# EAGLE library part AT91SAM7X256 (library at91sam7x-xxxx)
Atmels AT91SAM7X 128/256/512 32-bit ARM in LQFP100 package based on olimex development board http://www.olimex.com/dev/images/ARM/ATMEL/SAM7-EX256-REV-Bsch.gif by Grzegorz Rajtar e-mail: mcgregor@blackmesaeast.com.pl
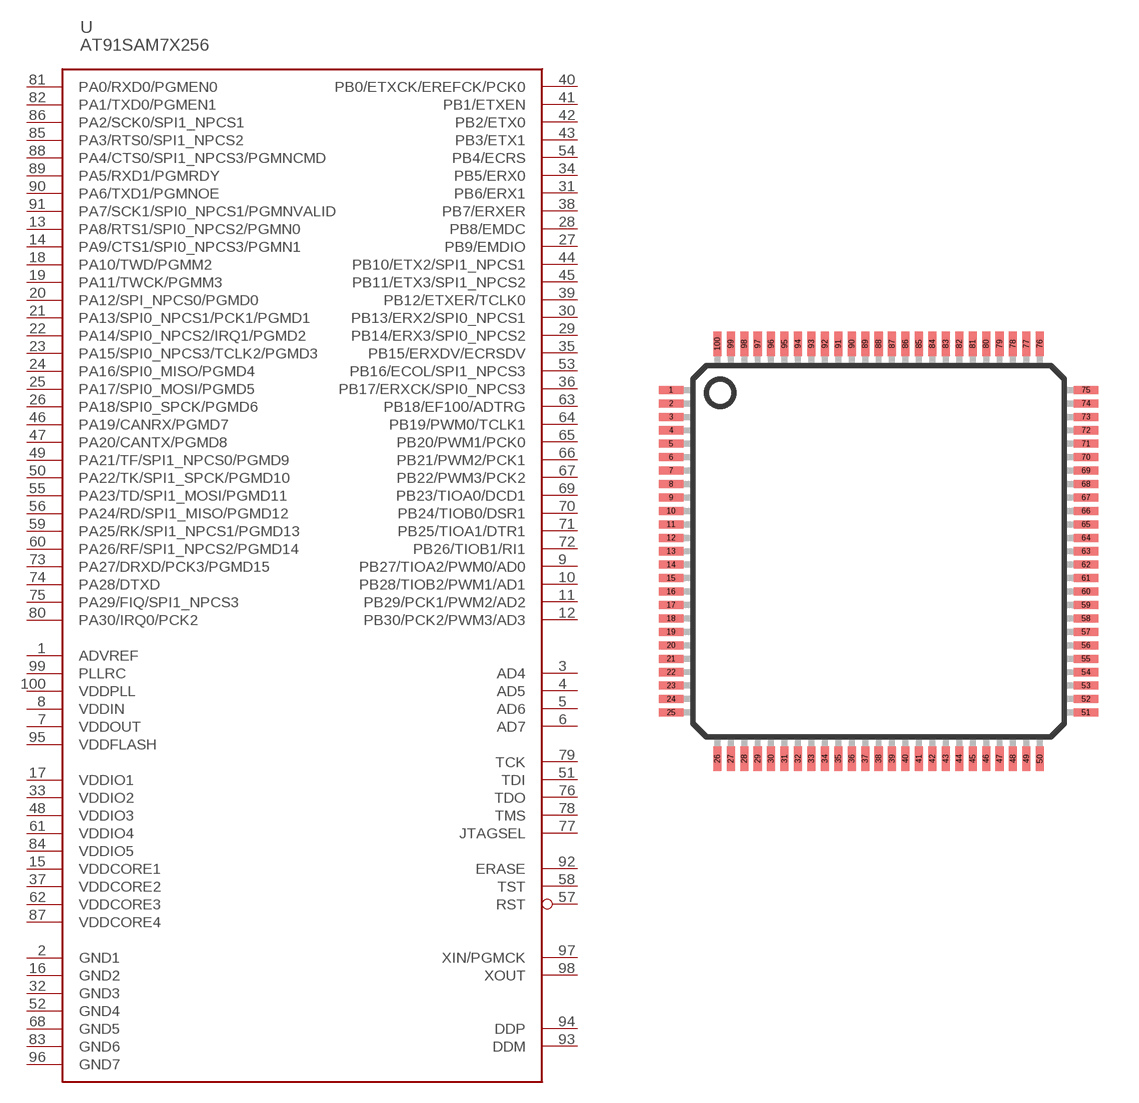
[diagram p0: symbol with the pads of LQFP100; footprint LQFP100]

Designator prefix -

## AT91SAM7X256  [LQFP100]
1  ADVREF
2  GND1
3  AD4
4  AD5
5  AD6
6  AD7
7  VDDOUT
8  VDDIN
9  PB27/TIOA2/PWM0/AD0
10  PB28/TIOB2/PWM1/AD1
11  PB29/PCK1/PWM2/AD2
12  PB30/PCK2/PWM3/AD3
13  PA8/RTS1/SPI0_NPCS2/PGMN0
14  PA9/CTS1/SPI0_NPCS3/PGMN1
15  VDDCORE1
16  GND2
17  VDDIO1
18  PA10/TWD/PGMM2
19  PA11/TWCK/PGMM3
20  PA12/SPI_NPCS0/PGMD0
21  PA13/SPI0_NPCS1/PCK1/PGMD1
22  PA14/SPI0_NPCS2/IRQ1/PGMD2
23  PA15/SPI0_NPCS3/TCLK2/PGMD3
24  PA16/SPI0_MISO/PGMD4
25  PA17/SPI0_MOSI/PGMD5
26  PA18/SPI0_SPCK/PGMD6
27  PB9/EMDIO
28  PB8/EMDC
29  PB14/ERX3/SPI0_NPCS2
30  PB13/ERX2/SPI0_NPCS1
31  PB6/ERX1
32  GND3
33  VDDIO2
34  PB5/ERX0
35  PB15/ERXDV/ECRSDV
36  PB17/ERXCK/SPI0_NPCS3
37  VDDCORE2
38  PB7/ERXER
39  PB12/ETXER/TCLK0
40  PB0/ETXCK/EREFCK/PCK0
41  PB1/ETXEN
42  PB2/ETX0
43  PB3/ETX1
44  PB10/ETX2/SPI1_NPCS1
45  PB11/ETX3/SPI1_NPCS2
46  PA19/CANRX/PGMD7
47  PA20/CANTX/PGMD8
48  VDDIO3
49  PA21/TF/SPI1_NPCS0/PGMD9
50  PA22/TK/SPI1_SPCK/PGMD10
51  TDI
52  GND4
53  PB16/ECOL/SPI1_NPCS3
54  PB4/ECRS
55  PA23/TD/SPI1_MOSI/PGMD11
56  PA24/RD/SPI1_MISO/PGMD12
57  RST
58  TST
59  PA25/RK/SPI1_NPCS1/PGMD13
60  PA26/RF/SPI1_NPCS2/PGMD14
61  VDDIO4
62  VDDCORE3
63  PB18/EF100/ADTRG
64  PB19/PWM0/TCLK1
65  PB20/PWM1/PCK0
66  PB21/PWM2/PCK1
67  PB22/PWM3/PCK2
68  GND5
69  PB23/TIOA0/DCD1
70  PB24/TIOB0/DSR1
71  PB25/TIOA1/DTR1
72  PB26/TIOB1/RI1
73  PA27/DRXD/PCK3/PGMD15
74  PA28/DTXD
75  PA29/FIQ/SPI1_NPCS3
76  TDO
77  JTAGSEL
78  TMS
79  TCK
80  PA30/IRQ0/PCK2
81  PA0/RXD0/PGMEN0
82  PA1/TXD0/PGMEN1
83  GND6
84  VDDIO5
85  PA3/RTS0/SPI1_NPCS2
86  PA2/SCK0/SPI1_NPCS1
87  VDDCORE4
88  PA4/CTS0/SPI1_NPCS3/PGMNCMD
89  PA5/RXD1/PGMRDY
90  PA6/TXD1/PGMNOE
91  PA7/SCK1/SPI0_NPCS1/PGMNVALID
92  ERASE
93  DDM
94  DDP
95  VDDFLASH
96  GND7
97  XIN/PGMCK
98  XOUT
99  PLLRC
100  VDDPLL

## Footprint LQFP100 (pad centres in mm)
Low Profile Quad Flat Pack
smd 0.9 x 0.3: 1 -7.72,6; 2 -7.72,5.5; 3 -7.72,5; 4 -7.72,4.5; 5 -7.72,4; 6 -7.72,3.5; 7 -7.72,3; 8 -7.72,2.5; 9 -7.72,2; 10 -7.72,1.5; 11 -7.72,1; 12 -7.72,0.5; 13 -7.72,0; 14 -7.72,-0.5; 15 -7.72,-1; 16 -7.72,-1.5; 17 -7.72,-2; 18 -7.72,-2.5; 19 -7.72,-3; 20 -7.72,-3.5; 21 -7.72,-4; 22 -7.72,-4.5; 23 -7.72,-5; 24 -7.72,-5.5; 25 -7.72,-6; 51 7.72,-6; 52 7.72,-5.5; 53 7.72,-5; 54 7.72,-4.5; 55 7.72,-4; 56 7.72,-3.5; 57 7.72,-3; 58 7.72,-2.5; 59 7.72,-2; 60 7.72,-1.5; 61 7.72,-1; 62 7.72,-0.5; 63 7.72,0; 64 7.72,0.5; 65 7.72,1; 66 7.72,1.5; 67 7.72,2; 68 7.72,2.5; 69 7.72,3; 70 7.72,3.5; 71 7.72,4; 72 7.72,4.5; 73 7.72,5; 74 7.72,5.5; 75 7.72,6
smd 0.3 x 0.9: 26 -6,-7.72; 27 -5.5,-7.72; 28 -5,-7.72; 29 -4.5,-7.72; 30 -4,-7.72; 31 -3.5,-7.72; 32 -3,-7.72; 33 -2.5,-7.72; 34 -2,-7.72; 35 -1.5,-7.72; 36 -1,-7.72; 37 -0.5,-7.72; 38 0,-7.72; 39 0.5,-7.72; 40 1,-7.72; 41 1.5,-7.72; 42 2,-7.72; 43 2.5,-7.72; 44 3,-7.72; 45 3.5,-7.72; 46 4,-7.72; 47 4.5,-7.72; 48 5,-7.72; 49 5.5,-7.72; 50 6,-7.72; 76 6,7.72; 77 5.5,7.72; 78 5,7.72; 79 4.5,7.72; 80 4,7.72; 81 3.5,7.72; 82 3,7.72; 83 2.5,7.72; 84 2,7.72; 85 1.5,7.72; 86 1,7.72; 87 0.5,7.72; 88 0,7.72; 89 -0.5,7.72; 90 -1,7.72; 91 -1.5,7.72; 92 -2,7.72; 93 -2.5,7.72; 94 -3,7.72; 95 -3.5,7.72; 96 -4,7.72; 97 -4.5,7.72; 98 -5,7.72; 99 -5.5,7.72; 100 -6,7.72